# EAGLE library part 1X20 (library magzor-connectors)
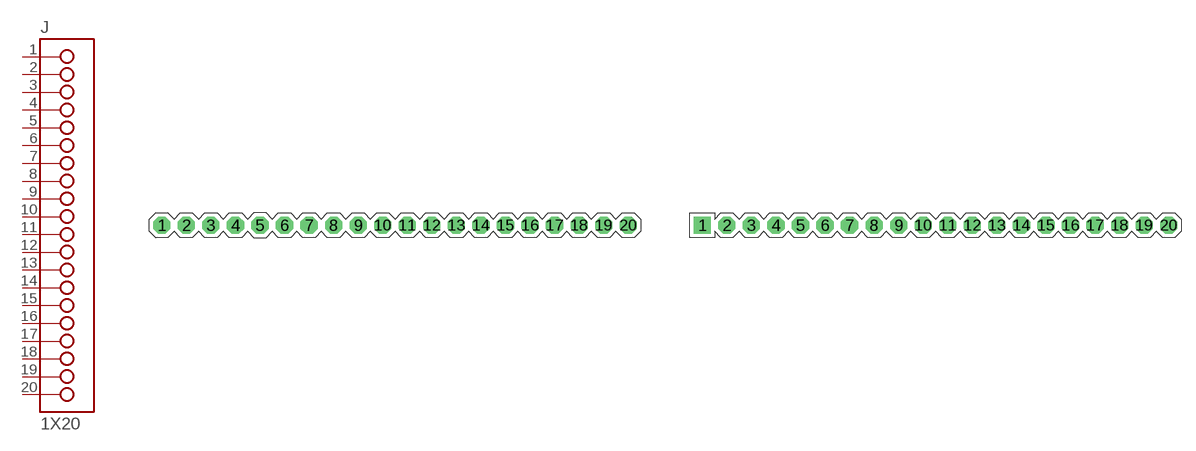
[diagram p3: symbol with the pads of P0.1IN-1X20; footprints P0.1IN-1X20, P0.1IN-1X20-1SQ]

Designator prefix J

## 1X20-0.1IN  [P0.1IN-1X20]
1  1
2  2
3  3
4  4
5  5
6  6
7  7
8  8
9  9
10  10
11  11
12  12
13  13
14  14
15  15
16  16
17  17
18  18
19  19
20  20

## 1X20-0.1IN-1SQ  [P0.1IN-1X20-1SQ]
Pads as for P0.1IN-1X20

## Footprint P0.1IN-1X20 (pad centres in mm)
drill 0.965 pad 1.778 octagon: 1 -24.13,0; 2 -21.59,0; 3 -19.05,0; 4 -16.51,0; 5 -13.97,0; 6 -11.43,0; 7 -8.89,0; 8 -6.35,0; 9 -3.81,0; 10 -1.27,0; 11 1.27,0; 12 3.81,0; 13 6.35,0; 14 8.89,0; 15 11.43,0; 16 13.97,0; 17 16.51,0; 18 19.05,0; 19 21.59,0; 20 24.13,0

## Footprint P0.1IN-1X20-1SQ (pad centres in mm)
drill 0.965 pad 1.778 square: 1 -24.13,0
drill 0.965 pad 1.778 octagon: 2 -21.59,0; 3 -19.05,0; 4 -16.51,0; 5 -13.97,0; 6 -11.43,0; 7 -8.89,0; 8 -6.35,0; 9 -3.81,0; 10 -1.27,0; 11 1.27,0; 12 3.81,0; 13 6.35,0; 14 8.89,0; 15 11.43,0; 16 13.97,0; 17 16.51,0; 18 19.05,0; 19 21.59,0; 20 24.13,0